# EAGLE library part ADC-AD7864 (library tidyeagle)
4-Channel, Simultaneous Sampling, High Speed, 12-Bit ADC Datasheet: Full <http://www.farnell.com/datasheets/77594.pdf> Farnell: 9603611 <http://uk.farnell.com/analog-devices/ad7864asz-1/ic-12bit-adc-smd-7864-lqfp44/dp/9603611?Ntt=AD7864>
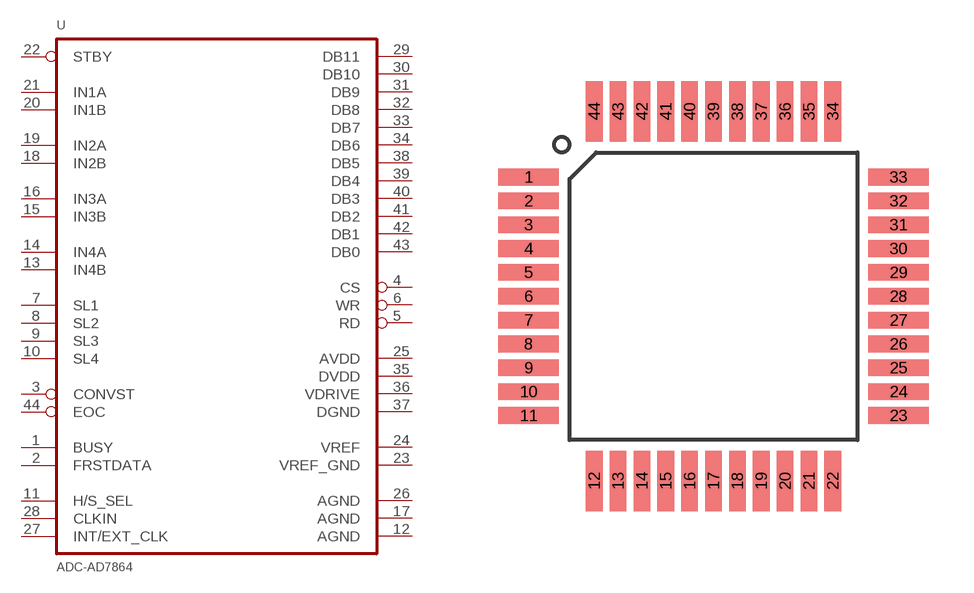
[diagram p17: symbol with the pads of QFP44; footprint QFP44]

Designator prefix -

## ADC-AD7864  [QFP44]
1  BUSY  out
2  FRSTDATA  out
3  CONVST  in
4  CS  pas
5  RD  in
6  WR  in
7  SL1  in
8  SL2  in
9  SL3  in
10  SL4  in
11  H/S_SEL  in
12  AGND  pwr
13  IN4B  in
14  IN4A  in
15  IN3B  in
16  IN3A  in
17  AGND  pwr
18  IN2B  in
19  IN2A  in
20  IN1B  in
21  IN1A  in
22  STBY  in
23  VREF_GND  pwr
24  VREF  pwr
25  AVDD  pwr
26  AGND  pwr
27  INT/EXT_CLK  in
28  CLKIN  in
29  DB11  out
30  DB10  out
31  DB9  out
32  DB8  out
33  DB7  out
34  DB6  out
35  DVDD  pwr
36  VDRIVE  pwr
37  DGND  pwr
38  DB5  out
39  DB4  out
40  DB3
41  DB2
42  DB1
43  DB0
44  EOC  out

## Footprint QFP44 (pad centres in mm)
Plastic Quad Flat Package
smd 2.032 x 0.559: 1 -6.2,4; 2 -6.2,3.2; 3 -6.2,2.4; 4 -6.2,1.6; 5 -6.2,0.8; 6 -6.2,0; 7 -6.2,-0.8; 8 -6.2,-1.6; 9 -6.2,-2.4; 10 -6.2,-3.2; 11 -6.2,-4; 23 6.2,-4; 24 6.2,-3.2; 25 6.2,-2.4; 26 6.2,-1.6; 27 6.2,-0.8; 28 6.2,0; 29 6.2,0.8; 30 6.2,1.6; 31 6.2,2.4; 32 6.2,3.2; 33 6.2,4
smd 0.559 x 2.032: 12 -4,-6.2; 13 -3.2,-6.2; 14 -2.4,-6.2; 15 -1.6,-6.2; 16 -0.8,-6.2; 17 0,-6.2; 18 0.8,-6.2; 19 1.6,-6.2; 20 2.4,-6.2; 21 3.2,-6.2; 22 4,-6.2; 34 4,6.2; 35 3.2,6.2; 36 2.4,6.2; 37 1.6,6.2; 38 0.8,6.2; 39 0,6.2; 40 -0.8,6.2; 41 -1.6,6.2; 42 -2.4,6.2; 43 -3.2,6.2; 44 -4,6.2